# EAGLE library part UCLAMP3304A (library Semtech-TVS_Diode)
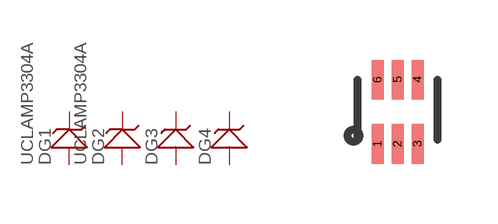
[diagram p0: symbol with the pads of SOT666; footprint SOT666]

Designator prefix D; gates G1=TVS G3=TVSP2 G4=TVSP2 G2=TVS

## UCLAMP3304A  [SOT666]
1  G1:1
2  G1:2
3  G2:1
4  G3:P$1
5  G2:2
6  G4:P$1

## Footprint SOT666 (pad centres in mm)
smd 0.3 x 0.99: 1 0,0; 2 0.5,0; 3 1,0; 4 1,1.61; 5 0.5,1.61; 6 0,1.61